# Altium schematic symbol library TPS63001.Schlib: 1 symbol
Pins are listed as number, name and electrical type; pins without a type are passive.

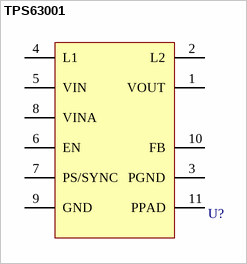
[diagram p0: symbol TPS63001]

## TPS63001
designator U?
pins: 1 VOUT, 2 L2, 3 PGND (power), 4 L1, 5 VIN, 6 EN, 7 PS/SYNC, 8 VINA, 9 GND (power), 10 FB, 11 PPAD (power)
1 alternate drawing of the same symbol